# Altium footprint library XILINX-XC7A200T2.PcbLib: 31 footprints (part 3 of 3)
Each footprint in its own frame and in the unit in brackets; x right, y up, seen from the top. Pads: shape width x height; smd on the part's side, far side on the other; paste and mask are expansions set on the pad; w line width, h text height; cw(c..) or ccw(c..) is an arc to the next point about the centre after c.
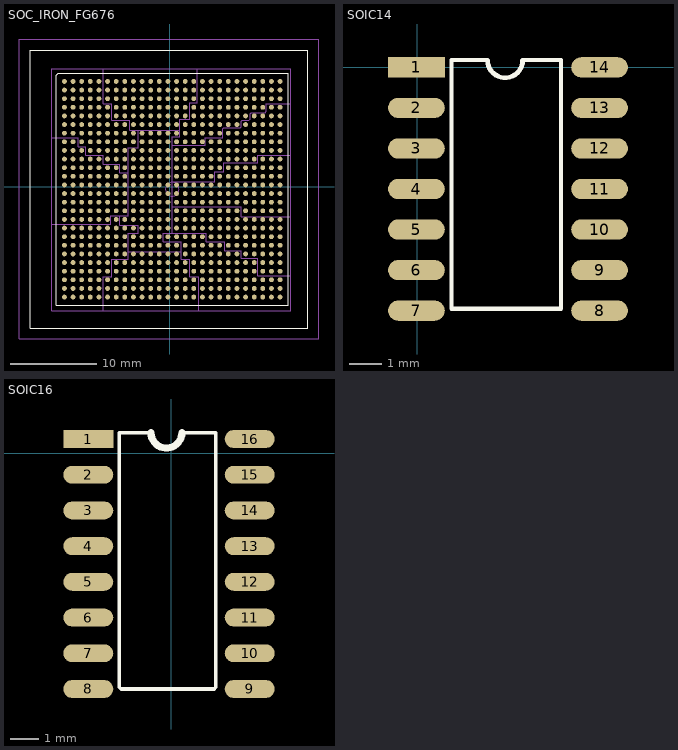
[diagram p2: the footprints below, top view; thin cyan lines are the x and y axes]

## SOC_IRON_FG676 [mil] "SOC_IRON_FG676"
pads (676):
  round 22 smd: A1(-479.63,479.63) A2(-440.26,479.63) A3(-400.89,479.63) A4(-361.52,479.63) A5(-322.15,479.63) A6(-282.78,479.63) A7(-243.41,479.63) A8(-204.04,479.63) A9(-164.67,479.63) A10(-125.3,479.63) A11(-85.93,479.63) A12(-46.56,479.63) A13(-7.19,479.63) A14(32.19,479.63) A15(71.56,479.63) A16(110.93,479.63) A17(150.3,479.63) A18(189.67,479.63) A19(229.04,479.63) A20(268.41,479.63) A21(307.78,479.63) A22(347.15,479.63) A23(386.52,479.63) A24(425.89,479.63) A25(465.26,479.63) A26(504.63,479.63) AA1(-479.63,-307.78) AA2(-440.26,-307.78) AA3(-400.89,-307.78) AA4(-361.52,-307.78) AA5(-322.15,-307.78) AA6(-282.78,-307.78) AA7(-243.41,-307.78) AA8(-204.04,-307.78) AA9(-164.67,-307.78) AA10(-125.3,-307.78) AA11(-85.93,-307.78) AA12(-46.56,-307.78) AA13(-7.19,-307.78) AA14(32.19,-307.78) AA15(71.56,-307.78) AA16(110.93,-307.78) AA17(150.3,-307.78) AA18(189.67,-307.78) AA19(229.04,-307.78) AA20(268.41,-307.78) AA21(307.78,-307.78) AA22(347.15,-307.78) AA23(386.52,-307.78) AA24(425.89,-307.78) AA25(465.26,-307.78) AA26(504.63,-307.78) AB1(-479.63,-347.15) AB2(-440.26,-347.15) AB3(-400.89,-347.15) AB4(-361.52,-347.15) AB5(-322.15,-347.15) AB6(-282.78,-347.15) AB7(-243.41,-347.15) AB8(-204.04,-347.15) AB9(-164.67,-347.15) AB10(-125.3,-347.15) AB11(-85.93,-347.15) AB12(-46.56,-347.15) AB13(-7.19,-347.15) AB14(32.19,-347.15) AB15(71.56,-347.15) AB16(110.93,-347.15) AB17(150.3,-347.15) AB18(189.67,-347.15) AB19(229.04,-347.15) AB20(268.41,-347.15) AB21(307.78,-347.15) AB22(347.15,-347.15) AB23(386.52,-347.15) AB24(425.89,-347.15) AB25(465.26,-347.15) AB26(504.63,-347.15) AC1(-479.63,-386.52) AC2(-440.26,-386.52) AC3(-400.89,-386.52) AC4(-361.52,-386.52) AC5(-322.15,-386.52) AC6(-282.78,-386.52) AC7(-243.41,-386.52) AC8(-204.04,-386.52) AC9(-164.67,-386.52) AC10(-125.3,-386.52) AC11(-85.93,-386.52) AC12(-46.56,-386.52) AC13(-7.19,-386.52) AC14(32.19,-386.52) AC15(71.56,-386.52) AC16(110.93,-386.52) AC17(150.3,-386.52) AC18(189.67,-386.52) AC19(229.04,-386.52) AC20(268.41,-386.52) AC21(307.78,-386.52) AC22(347.15,-386.52) AC23(386.52,-386.52) AC24(425.89,-386.52) AC25(465.26,-386.52) AC26(504.63,-386.52) AD1(-479.63,-425.89) AD2(-440.26,-425.89) AD3(-400.89,-425.89) AD4(-361.52,-425.89) AD5(-322.15,-425.89) AD6(-282.78,-425.89) AD7(-243.41,-425.89) AD8(-204.04,-425.89) AD9(-164.67,-425.89) AD10(-125.3,-425.89) AD11(-85.93,-425.89) AD12(-46.56,-425.89) AD13(-7.19,-425.89) AD14(32.19,-425.89) AD15(71.56,-425.89) AD16(110.93,-425.89) AD17(150.3,-425.89) AD18(189.67,-425.89) AD19(229.04,-425.89) AD20(268.41,-425.89) AD21(307.78,-425.89) AD22(347.15,-425.89) AD23(386.52,-425.89) AD24(425.89,-425.89) AD25(465.26,-425.89) AD26(504.63,-425.89) AE1(-479.63,-465.26) AE2(-440.26,-465.26) AE3(-400.89,-465.26) AE4(-361.52,-465.26) AE5(-322.15,-465.26) AE6(-282.78,-465.26) AE7(-243.41,-465.26) AE8(-204.04,-465.26) AE9(-164.67,-465.26) AE10(-125.3,-465.26) AE11(-85.93,-465.26) AE12(-46.56,-465.26) AE13(-7.19,-465.26) AE14(32.19,-465.26) AE15(71.56,-465.26) AE16(110.93,-465.26) AE17(150.3,-465.26) AE18(189.67,-465.26) AE19(229.04,-465.26) AE20(268.41,-465.26) AE21(307.78,-465.26) AE22(347.15,-465.26) AE23(386.52,-465.26) AE24(425.89,-465.26) AE25(465.26,-465.26) AE26(504.63,-465.26) AF1(-479.63,-504.63) AF2(-440.26,-504.63) AF3(-400.89,-504.63) AF4(-361.52,-504.63) AF5(-322.15,-504.63) AF6(-282.78,-504.63) AF7(-243.41,-504.63) AF8(-204.04,-504.63) AF9(-164.67,-504.63) AF10(-125.3,-504.63) AF11(-85.93,-504.63) AF12(-46.56,-504.63) AF13(-7.19,-504.63) AF14(32.19,-504.63) AF15(71.56,-504.63) AF16(110.93,-504.63) AF17(150.3,-504.63) AF18(189.67,-504.63) AF19(229.04,-504.63) AF20(268.41,-504.63) AF21(307.78,-504.63) AF22(347.15,-504.63) AF23(386.52,-504.63) AF24(425.89,-504.63) AF25(465.26,-504.63) AF26(504.63,-504.63) B1(-479.63,440.26) B2(-440.26,440.26) B3(-400.89,440.26) B4(-361.52,440.26) B5(-322.15,440.26) B6(-282.78,440.26) B7(-243.41,440.26) B8(-204.04,440.26) B9(-164.67,440.26) B10(-125.3,440.26) B11(-85.93,440.26) B12(-46.56,440.26) B13(-7.19,440.26) B14(32.19,440.26) B15(71.56,440.26) B16(110.93,440.26) B17(150.3,440.26) B18(189.67,440.26) B19(229.04,440.26) B20(268.41,440.26) B21(307.78,440.26) B22(347.15,440.26) B23(386.52,440.26) B24(425.89,440.26) B25(465.26,440.26) B26(504.63,440.26) C1(-479.63,400.89) C2(-440.26,400.89) C3(-400.89,400.89) C4(-361.52,400.89) C5(-322.15,400.89) C6(-282.78,400.89) C7(-243.41,400.89) C8(-204.04,400.89) C9(-164.67,400.89) C10(-125.3,400.89) C11(-85.93,400.89) C12(-46.56,400.89) C13(-7.19,400.89) C14(32.19,400.89) C15(71.56,400.89) C16(110.93,400.89) C17(150.3,400.89) C18(189.67,400.89) C19(229.04,400.89) C20(268.41,400.89) C21(307.78,400.89) C22(347.15,400.89) C23(386.52,400.89) C24(425.89,400.89) C25(465.26,400.89) C26(504.63,400.89) D1(-479.63,361.52) D2(-440.26,361.52) D3(-400.89,361.52) D4(-361.52,361.52) D5(-322.15,361.52) D6(-282.78,361.52) D7(-243.41,361.52) D8(-204.04,361.52) D9(-164.67,361.52) D10(-125.3,361.52) D11(-85.93,361.52) D12(-46.56,361.52) D13(-7.19,361.52) D14(32.19,361.52) D15(71.56,361.52) D16(110.93,361.52) D17(150.3,361.52) D18(189.67,361.52) D19(229.04,361.52) D20(268.41,361.52) D21(307.78,361.52) D22(347.15,361.52) D23(386.52,361.52) D24(425.89,361.52) D25(465.26,361.52) D26(504.63,361.52) E1(-479.63,322.15) E2(-440.26,322.15) E3(-400.89,322.15) E4(-361.52,322.15) E5(-322.15,322.15) E6(-282.78,322.15) E7(-243.41,322.15) E8(-204.04,322.15) E9(-164.67,322.15) E10(-125.3,322.15) E11(-85.93,322.15) E12(-46.56,322.15) E13(-7.19,322.15) E14(32.19,322.15) E15(71.56,322.15) E16(110.93,322.15) E17(150.3,322.15) E18(189.67,322.15) E19(229.04,322.15) E20(268.41,322.15) E21(307.78,322.15) E22(347.15,322.15) E23(386.52,322.15) E24(425.89,322.15) E25(465.26,322.15) E26(504.63,322.15) F1(-479.63,282.78) F2(-440.26,282.78) F3(-400.89,282.78) F4(-361.52,282.78) F5(-322.15,282.78) F6(-282.78,282.78) F7(-243.41,282.78) F8(-204.04,282.78) F9(-164.67,282.78) F10(-125.3,282.78) F11(-85.93,282.78) F12(-46.56,282.78) F13(-7.19,282.78) F14(32.19,282.78) F15(71.56,282.78) F16(110.93,282.78) F17(150.3,282.78) F18(189.67,282.78) F19(229.04,282.78) F20(268.41,282.78) F21(307.78,282.78) F22(347.15,282.78) F23(386.52,282.78) F24(425.89,282.78) F25(465.26,282.78) F26(504.63,282.78) G1(-479.63,243.41) G2(-440.26,243.41) G3(-400.89,243.41) G4(-361.52,243.41) G5(-322.15,243.41) G6(-282.78,243.41) G7(-243.41,243.41) G8(-204.04,243.41) G9(-164.67,243.41) G10(-125.3,243.41) G11(-85.93,243.41) G12(-46.56,243.41) G13(-7.19,243.41) G14(32.19,243.41) G15(71.56,243.41) G16(110.93,243.41) G17(150.3,243.41) G18(189.67,243.41) G19(229.04,243.41) G20(268.41,243.41) G21(307.78,243.41) G22(347.15,243.41) G23(386.52,243.41) G24(425.89,243.41) G25(465.26,243.41) G26(504.63,243.41) H1(-479.63,204.04) H2(-440.26,204.04) H3(-400.89,204.04) H4(-361.52,204.04) H5(-322.15,204.04) H6(-282.78,204.04) H7(-243.41,204.04) H8(-204.04,204.04) H9(-164.67,204.04) H10(-125.3,204.04) H11(-85.93,204.04) H12(-46.56,204.04) H13(-7.19,204.04) H14(32.19,204.04) H15(71.56,204.04) H16(110.93,204.04) H17(150.3,204.04) H18(189.67,204.04) H19(229.04,204.04) H20(268.41,204.04) H21(307.78,204.04) H22(347.15,204.04) H23(386.52,204.04) H24(425.89,204.04) H25(465.26,204.04) H26(504.63,204.04) J1(-479.63,164.67) J2(-440.26,164.67) J3(-400.89,164.67) J4(-361.52,164.67) J5(-322.15,164.67) J6(-282.78,164.67) J7(-243.41,164.67) J8(-204.04,164.67) J9(-164.67,164.67) J10(-125.3,164.67) J11(-85.93,164.67) J12(-46.56,164.67) J13(-7.19,164.67) J14(32.19,164.67) J15(71.56,164.67) J16(110.93,164.67) J17(150.3,164.67) J18(189.67,164.67) J19(229.04,164.67) J20(268.41,164.67) J21(307.78,164.67) J22(347.15,164.67) J23(386.52,164.67) J24(425.89,164.67) J25(465.26,164.67) J26(504.63,164.67) K1(-479.63,125.3) K2(-440.26,125.3) K3(-400.89,125.3) K4(-361.52,125.3) K5(-322.15,125.3) K6(-282.78,125.3) K7(-243.41,125.3) K8(-204.04,125.3) K9(-164.67,125.3) K10(-125.3,125.3) K11(-85.93,125.3) K12(-46.56,125.3) K13(-7.19,125.3) K14(32.19,125.3) K15(71.56,125.3) K16(110.93,125.3) K17(150.3,125.3) K18(189.67,125.3) K19(229.04,125.3) K20(268.41,125.3) K21(307.78,125.3) K22(347.15,125.3) K23(386.52,125.3) K24(425.89,125.3) K25(465.26,125.3) K26(504.63,125.3) L1(-479.63,85.93) L2(-440.26,85.93) L3(-400.89,85.93) L4(-361.52,85.93) L5(-322.15,85.93) L6(-282.78,85.93) L7(-243.41,85.93) L8(-204.04,85.93) L9(-164.67,85.93) L10(-125.3,85.93) L11(-85.93,85.93) L12(-46.56,85.93) L13(-7.19,85.93) L14(32.19,85.93) L15(71.56,85.93) L16(110.93,85.93) L17(150.3,85.93) L18(189.67,85.93) L19(229.04,85.93) L20(268.41,85.93) L21(307.78,85.93) L22(347.15,85.93) L23(386.52,85.93) L24(425.89,85.93) L25(465.26,85.93) L26(504.63,85.93) M1(-479.63,46.56) M2(-440.26,46.56) M3(-400.89,46.56) M4(-361.52,46.56) M5(-322.15,46.56) M6(-282.78,46.56) M7(-243.41,46.56) M8(-204.04,46.56) M9(-164.67,46.56) M10(-125.3,46.56) M11(-85.93,46.56) M12(-46.56,46.56) M13(-7.19,46.56) M14(32.19,46.56) M15(71.56,46.56) M16(110.93,46.56) M17(150.3,46.56) M18(189.67,46.56) M19(229.04,46.56) M20(268.41,46.56) M21(307.78,46.56) M22(347.15,46.56) M23(386.52,46.56) M24(425.89,46.56) M25(465.26,46.56) M26(504.63,46.56) N1(-479.63,7.19) N2(-440.26,7.19) N3(-400.89,7.19) N4(-361.52,7.19) N5(-322.15,7.19) N6(-282.78,7.19) N7(-243.41,7.19) N8(-204.04,7.19) N9(-164.67,7.19) N10(-125.3,7.19) N11(-85.93,7.19) N12(-46.56,7.19) N13(-7.19,7.19) N14(32.19,7.19) N15(71.56,7.19) N16(110.93,7.19) N17(150.3,7.19) N18(189.67,7.19) N19(229.04,7.19) N20(268.41,7.19) N21(307.78,7.19) N22(347.15,7.19) N23(386.52,7.19) N24(425.89,7.19) N25(465.26,7.19) N26(504.63,7.19) P1(-479.63,-32.19) P2(-440.26,-32.19) P3(-400.89,-32.19) P4(-361.52,-32.19) P5(-322.15,-32.19) P6(-282.78,-32.19) P7(-243.41,-32.19) P8(-204.04,-32.19) P9(-164.67,-32.19) P10(-125.3,-32.19) P11(-85.93,-32.19) P12(-46.56,-32.19) P13(-7.19,-32.19) P14(32.19,-32.19) P15(71.56,-32.19) P16(110.93,-32.19) P17(150.3,-32.19) P18(189.67,-32.19) P19(229.04,-32.19) P20(268.41,-32.19) P21(307.78,-32.19) P22(347.15,-32.19) P23(386.52,-32.19) P24(425.89,-32.19) P25(465.26,-32.19) P26(504.63,-32.19) R1(-479.63,-71.56) R2(-440.26,-71.56) R3(-400.89,-71.56) R4(-361.52,-71.56) R5(-322.15,-71.56) R6(-282.78,-71.56) R7(-243.41,-71.56) R8(-204.04,-71.56) R9(-164.67,-71.56) R10(-125.3,-71.56) R11(-85.93,-71.56) R12(-46.56,-71.56) R13(-7.19,-71.56) R14(32.19,-71.56) R15(71.56,-71.56) R16(110.93,-71.56) R17(150.3,-71.56) R18(189.67,-71.56) R19(229.04,-71.56) R20(268.41,-71.56) R21(307.78,-71.56) R22(347.15,-71.56) R23(386.52,-71.56) R24(425.89,-71.56) R25(465.26,-71.56) R26(504.63,-71.56) T1(-479.63,-110.93) T2(-440.26,-110.93) T3(-400.89,-110.93) T4(-361.52,-110.93) T5(-322.15,-110.93) T6(-282.78,-110.93) T7(-243.41,-110.93) T8(-204.04,-110.93) T9(-164.67,-110.93) T10(-125.3,-110.93) T11(-85.93,-110.93) T12(-46.56,-110.93) T13(-7.19,-110.93) T14(32.19,-110.93) T15(71.56,-110.93) T16(110.93,-110.93) T17(150.3,-110.93) T18(189.67,-110.93) T19(229.04,-110.93) T20(268.41,-110.93) T21(307.78,-110.93) T22(347.15,-110.93) T23(386.52,-110.93) T24(425.89,-110.93) T25(465.26,-110.93) T26(504.63,-110.93) U1(-479.63,-150.3) U2(-440.26,-150.3) U3(-400.89,-150.3) U4(-361.52,-150.3) U5(-322.15,-150.3) U6(-282.78,-150.3) U7(-243.41,-150.3) U8(-204.04,-150.3) U9(-164.67,-150.3) U10(-125.3,-150.3) U11(-85.93,-150.3) U12(-46.56,-150.3) U13(-7.19,-150.3) U14(32.19,-150.3) U15(71.56,-150.3) U16(110.93,-150.3) U17(150.3,-150.3) U18(189.67,-150.3) U19(229.04,-150.3) U20(268.41,-150.3) U21(307.78,-150.3) U22(347.15,-150.3) U23(386.52,-150.3) U24(425.89,-150.3) U25(465.26,-150.3) U26(504.63,-150.3) V1(-479.63,-189.67) V2(-440.26,-189.67) V3(-400.89,-189.67) V4(-361.52,-189.67) V5(-322.15,-189.67) V6(-282.78,-189.67) V7(-243.41,-189.67) V8(-204.04,-189.67) V9(-164.67,-189.67) V10(-125.3,-189.67) V11(-85.93,-189.67) V12(-46.56,-189.67) V13(-7.19,-189.67) V14(32.19,-189.67) V15(71.56,-189.67) V16(110.93,-189.67) V17(150.3,-189.67) V18(189.67,-189.67) V19(229.04,-189.67) V20(268.41,-189.67) V21(307.78,-189.67) V22(347.15,-189.67) V23(386.52,-189.67) V24(425.89,-189.67) V25(465.26,-189.67) V26(504.63,-189.67) W1(-479.63,-229.04) W2(-440.26,-229.04) W3(-400.89,-229.04) W4(-361.52,-229.04) W5(-322.15,-229.04) W6(-282.78,-229.04) W7(-243.41,-229.04) W8(-204.04,-229.04) W9(-164.67,-229.04) W10(-125.3,-229.04) W11(-85.93,-229.04) W12(-46.56,-229.04) W13(-7.19,-229.04) W14(32.19,-229.04) W15(71.56,-229.04) W16(110.93,-229.04) W17(150.3,-229.04) W18(189.67,-229.04) W19(229.04,-229.04) W20(268.41,-229.04) W21(307.78,-229.04) W22(347.15,-229.04) W23(386.52,-229.04) W24(425.89,-229.04) W25(465.26,-229.04) W26(504.63,-229.04) Y1(-479.63,-268.41) Y2(-440.26,-268.41) Y3(-400.89,-268.41) Y4(-361.52,-268.41) Y5(-322.15,-268.41) Y6(-282.78,-268.41) Y7(-243.41,-268.41) Y8(-204.04,-268.41) Y9(-164.67,-268.41) Y10(-125.3,-268.41) Y11(-85.93,-268.41) Y12(-46.56,-268.41) Y13(-7.19,-268.41) Y14(32.19,-268.41) Y15(71.56,-268.41) Y16(110.93,-268.41) Y17(150.3,-268.41) Y18(189.67,-268.41) Y19(229.04,-268.41) Y20(268.41,-268.41) Y21(307.78,-268.41) Y22(347.15,-268.41) Y23(386.52,-268.41) Y24(425.89,-268.41) Y25(465.26,-268.41) Y26(504.63,-268.41)
Top Overlay:
  lines w1: -636.64,-646.82 -636.64,621.88 632.06,621.88 632.06,-646.82 -636.64,-646.82
  lines w5: -517.03,-542.03 542.03,-542.03 542.03,517.03 -506.79,517.03 -517.03,506.79 -517.03,-542.03
Bottom Overlay:
  lines w5: -538.68,-307.78 -187.5,-307.78 ; -538.68,-110.93 -185.5,-110.93 ; -538.68,125.3 -185.5,125.3 ; -538.68,322.15 -147.5,322.15 ; -322.15,-563.68 -322.15,-489.13 ; -322.15,-405.13 -322.15,-94.13 ; -322.15,-41.13 -322.15,410.87 ; -322.15,503.87 -322.15,538.68 ; -125.3,-563.68 -125.3,-530.13 ; -125.3,-443.13 -125.3,-328.13 ; -125.3,-287.13 -125.3,-212.13 ; -125.3,12.87 -125.3,21.87 ; -125.3,183.87 -125.3,256.87 ; -125.3,347.87 -125.3,538.68 ; -104.5,-307.78 -65.5,-307.78 ; -104.5,322.15 -68.5,322.15 ; -26.5,322.15 563.68,322.15 ; 41.5,-307.78 563.68,-307.78 ; 41.5,-110.93 563.68,-110.93 ; 110.93,-563.68 110.93,-492.13 ; 110.93,459.87 110.93,538.68 ; 307.78,-563.68 307.78,538.68
  text "26" at 287.26,551.87 h35
  text "20" at 517.26,581.87 h35
Mechanical 2:
  circle w1: c12.5,-12.5 r31.25
  lines w1: 681.1,-692.91 681.1,673.23 ; 681.28,-696.04 -685.85,-696.04 -685.85,671.09 681.28,671.09
Mechanical 16:
  lines w5: -227.5,-132.5 -227.5,-177.5 -142.5,-177.5 -142.5,-212.5 -187.5,-212.5 -187.5,-332.5 -262.5,-332.5 -262.5,-412.5 -302.5,-412.5 -302.5,-567.5 ; -187.5,-297.5 52.5,-297.5 ; 47.5,257.5 -142.5,257.5 ; -537.5,-172.5 -267.5,-172.5 -267.5,-132.5 -187.5,-132.5 -187.5,62.5 ; -537.5,-172.5 -537.5,222.5 ; -537.5,-172.5 -537.5,-567.5 -302.5,-567.5 ; -537.5,222.5 -537.5,537.5 -302.5,537.5 ; -537.5,222.5 -417.5,222.5 -417.5,182.5 -382.5,182.5 -382.5,142.5 -302.5,142.5 -302.5,102.5 -227.5,102.5 -227.5,62.5 -187.5,62.5 ; -302.5,-567.5 132.5,-567.5 ; -302.5,537.5 127.5,537.5 ; -302.5,537.5 -302.5,377.5 -262.5,377.5 -262.5,302.5 -182.5,302.5 -182.5,257.5 -142.5,257.5 ; -187.5,62.5 -187.5,177.5 -142.5,177.5 -142.5,257.5 ; 12.5,-212.5 12.5,-92.5 ; 12.5,-212.5 167.5,-212.5 167.5,-252.5 252.5,-252.5 252.5,-292.5 327.5,-292.5 327.5,-327.5 402.5,-327.5 402.5,-407.5 552.5,-407.5 ; 12.5,-212.5 -27.5,-212.5 -27.5,-252.5 52.5,-252.5 52.5,-332.5 92.5,-332.5 92.5,-412.5 132.5,-412.5 132.5,-567.5 ; 12.5,-92.5 12.5,22.5 ; 12.5,-92.5 327.5,-92.5 327.5,-137.5 552.5,-137.5 ; 12.5,22.5 12.5,187.5 ; 12.5,22.5 207.5,22.5 207.5,67.5 247.5,67.5 247.5,107.5 402.5,107.5 402.5,142.5 552.5,142.5 ; 12.5,187.5 162.5,187.5 162.5,222.5 242.5,222.5 242.5,262.5 247.5,267.5 322.5,267.5 327.5,272.5 327.5,297.5 332.5,302.5 362.5,302.5 367.5,307.5 367.5,332.5 372.5,337.5 437.5,337.5 442.5,342.5 442.5,377.5 552.5,377.5 ; 12.5,187.5 12.5,227.5 47.5,227.5 47.5,307.5 92.5,307.5 92.5,382.5 127.5,382.5 127.5,507.5 127.5,537.5 ; 127.5,537.5 552.5,537.5 552.5,377.5 ; 132.5,-567.5 552.5,-567.5 552.5,-407.5 ; 552.5,-407.5 552.5,-137.5 ; 552.5,-137.5 552.5,142.5 ; 552.5,142.5 552.5,377.5
  text "F24" at 449.89,282.78 h40
  text "K19" at 253.04,125.3 h40
  text "R25" at 489.26,-71.56 h40
  text "M16" at 134.93,46.56 h40
  text "Bank 15" at 527.5,302.5 h40
  text "Bank 14" at 527.5,57.5 h40
  text "Bank 13" at 527.5,-202.5 h40
  text "Bank 16" at 462.5,527.5 h40
  text "Bank 12" at 402.5,-537.5 h40
  text "Bank MGT-116" at -7.5,527.5 h40
  text "Bank MGT-113" at -12.5,-537.5 h40
  text "Bank 35" at -367.5,527.5 h40
  text "Bank 34" at -527.5,122.5 h40
  text "Bank 33" at -527.5,-347.5 h40
  text "B16" at 134.93,440.26 h40
  text "AD16" at 142.93,-425.89 h40
  text "B15" at 95.56,440.26 h40
  text "A14" at 56.19,479.63 h40
  text "E12" at -22.56,322.15 h40
  text "C13" at 16.81,400.89 h40
  text "E15" at 95.56,322.15 h40
  text "J12" at -22.56,164.67 h40
  text "G13" at 16.81,243.41 h40
  text "L12" at -22.56,85.93 h40
  text "M13" at 16.81,46.56 h40
  text "U12" at -22.56,-150.3 h40
  text "T13" at 16.81,-110.93 h40
  text "W12" at -22.56,-229.04 h40
  text "AB12" at -14.56,-347.15 h40
  text "AF12" at -14.56,-504.63 h40
  text "AD13" at 24.81,-425.89 h40
  text "AC15" at 103.56,-386.52 h40
  text "C9" at -148.67,400.89 h40
  text "E10" at -101.3,322.15 h40
  text "F9" at -148.67,282.78 h40
  text "G11" at -61.93,243.41 h40
  text "K9" at -148.67,125.3 h40
  text "K11" at -61.93,125.3 h40
  text "L10" at -101.3,85.93 h40
  text "M9" at -148.67,46.56 h40
  text "P9" at -148.67,-32.19 h40
  text "AA9" at -140.67,-307.78 h40
  text "AF10" at -93.3,-504.63 h40
  text "AD9" at -140.67,-425.89 h40
  text "AD11" at -53.93,-425.89 h40
  text "D7" at -227.41,361.52 h40
  text "P7" at -227.41,-32.19 h40
  text "AD6" at -258.78,-425.89 h40
  text "M3" at -384.89,46.56 h40
  text "A8" at -188.04,479.63 h40
  text "AB23" at 418.52,-347.15 h40
  text "W22" at 371.15,-229.04 h40
  text "V25" at 489.26,-189.67 h40
  text "T21" at 331.78,-110.93 h40
  text "R24" at 449.89,-71.56 h40
  text "A26" at 528.63,479.63 h40
  text "B23" at 410.52,440.26 h40
  text "A16" at 134.93,479.63 h40
  text "A10" at -101.3,479.63 h40
  text "A12" at -22.56,479.63 h40
  text "B6" at -266.78,440.26 h40
  text "A6" at -266.78,479.63 h40
  text "B3" at -384.89,440.26 h40
  text "C20" at 292.41,400.89 h40
  text "F21" at 331.78,282.78 h40
  text "E24" at 449.89,322.15 h40
  text "C16" at 134.93,400.89 h40
  text "D17" at 174.3,361.52 h40
  text "F14" at 56.19,282.78 h40
  text "E14" at 56.19,322.15 h40
  text "D15" at 95.56,361.52 h40
  text "E8" at -188.04,322.15 h40
  text "E9" at -148.67,322.15 h40
  text "C11" at -61.93,400.89 h40
  text "C6" at -266.78,400.89 h40
  text "E7" at -227.41,322.15 h40
  text "E4" at -345.52,322.15 h40
  text "F1" at -463.63,282.78 h40
  text "H25" at 489.26,204.04 h40
  text "J22" at 371.15,164.67 h40
  text "G18" at 213.67,243.41 h40
  text "K13" at 16.81,125.3 h40
  text "G10" at -101.3,243.41 h40
  text "G12" at -22.56,243.41 h40
  text "H5" at -306.15,204.04 h40
  text "J2" at -424.26,164.67 h40
  text "L26" at 528.63,85.93 h40
  text "N20" at 292.41,7.19 h40
  text "M23" at 410.52,46.56 h40
  text "P17" at 174.3,-32.19 h40
  text "L16" at 134.93,85.93 h40
  text "P13" at 16.81,-32.19 h40
  text "N10" at -101.3,7.19 h40
  text "L6" at -266.78,85.93 h40
  text "U18" at 213.67,-150.3 h40
  text "V13" at 16.81,-189.67 h40
  text "V15" at 95.56,-189.67 h40
  text "U10" at -101.3,-150.3 h40
  text "T11" at -61.93,-110.93 h40
  text "U8" at -188.04,-150.3 h40
  text "T9" at -148.67,-110.93 h40
  text "R10" at -101.3,-71.56 h40
  text "V5" at -306.15,-189.67 h40
  text "R4" at -345.52,-71.56 h40
  text "T1" at -463.63,-110.93 h40
  text "AA16" at 142.93,-307.78 h40
  text "Y19" at 253.04,-268.41 h40
  text "Y13" at 16.81,-268.41 h40
  text "AB14" at 64.19,-347.15 h40
  text "AA14" at 64.19,-307.78 h40
  text "AB8" at -180.04,-347.15 h40
  text "AB9" at -140.67,-347.15 h40
  text "Y10" at -101.3,-268.41 h40
  text "AB10" at -93.3,-347.15 h40
  text "Y11" at -61.93,-268.41 h40
  text "Y12" at -22.56,-268.41 h40
  text "AA6" at -258.78,-307.78 h40
  text "AB3" at -376.89,-347.15 h40
  text "W2" at -424.26,-229.04 h40
  text "AC20" at 300.41,-386.52 h40
  text "AF21" at 339.78,-504.63 h40
  text "AE24" at 457.89,-465.26 h40
  text "AF16" at 142.93,-504.63 h40
  text "AF14" at 64.19,-504.63 h40
  text "AE15" at 103.56,-465.26 h40
  text "AF8" at -180.04,-504.63 h40
  text "AE4" at -337.52,-465.26 h40
  text "AF6" at -258.78,-504.63 h40
  text "AE6" at -258.78,-465.26 h40
  text "AC7" at -219.41,-386.52 h40
  text "AF1" at -455.63,-504.63 h40
  text "AA26" at 536.63,-307.78 h40
  text "U4" at -345.52,-150.3 h40
  text "M4" at -345.52,46.56 h40
  text "J3" at -384.89,164.67 h40
  text "J1" at -463.63,164.67 h40
  text "L4" at -345.52,85.93 h40
  text "K5" at -306.15,125.3 h40
  text "M7" at -227.41,46.56 h40
  text "K1" at -463.63,125.3 h40
  text "M6" at -266.78,46.56 h40
  text "H1" at -463.63,204.04 h40
  text "K3" at -384.89,125.3 h40
  text "N7" at -227.41,7.19 h40
  text "L5" at -306.15,85.93 h40
  text "L7" at -227.41,85.93 h40
  text "N6" at -266.78,7.19 h40
  text "L3" at -384.89,85.93 h40
  text "K2" at -424.26,125.3 h40
  text "N1" at -463.63,7.19 h40
  text "M1" at -463.63,46.56 h40
  text "H2" at -424.26,204.04 h40
  text "T4" at -345.52,-110.93 h40
  text "P4" at -345.52,-32.19 h40
  text "N4" at -345.52,7.19 h40
  text "L2" at -424.26,85.93 h40
  text "M2" at -424.26,46.56 h40
  text "N2" at -424.26,7.19 h40
  text "N3" at -384.89,7.19 h40
  text "AB6" at -258.78,-347.15 h40
  text "AA8" at -180.04,-307.78 h40
  text "Y8" at -188.04,-268.41 h40
  text "AB5" at -298.15,-347.15 h40
  text "AA5" at -298.15,-307.78 h40
  text "Y5" at -306.15,-268.41 h40
  text "Y6" at -266.78,-268.41 h40
  text "Y7" at -227.41,-268.41 h40
  text "AF4" at -337.52,-504.63 h40
  text "AF5" at -298.15,-504.63 h40
  text "AF3" at -376.89,-504.63 h40
  text "AE3" at -376.89,-465.26 h40
  text "AD3" at -376.89,-425.89 h40
  text "AC3" at -376.89,-386.52 h40
  text "AB4" at -337.52,-347.15 h40
  text "AA4" at -337.52,-307.78 h40
  text "AC2" at -416.26,-386.52 h40
  text "AB2" at -416.26,-347.15 h40
  text "AF2" at -416.26,-504.63 h40
  text "AE2" at -416.26,-465.26 h40
  text "Y1" at -463.63,-268.41 h40
  text "Y2" at -424.26,-268.41 h40
  text "AC1" at -455.63,-386.52 h40
  text "AB1" at -455.63,-347.15 h40
  text "Y3" at -384.89,-268.41 h40
  text "W3" at -384.89,-229.04 h40
  text "W6" at -266.78,-229.04 h40
  text "V6" at -266.78,-189.67 h40
  text "W4" at -345.52,-229.04 h40
  text "W5" at -306.15,-229.04 h40
  text "W1" at -463.63,-229.04 h40
  text "V1" at -463.63,-189.67 h40
  text "G2" at -424.26,243.41 h40
  text "D1" at -463.63,361.52 h40
  text "E1" at -463.63,322.15 h40
  text "E2" at -424.26,322.15 h40
  text "F2" at -424.26,282.78 h40
  text "A2" at -424.26,479.63 h40
  text "A3" at -384.89,479.63 h40
  text "C2" at -424.26,400.89 h40
  text "C3" at -384.89,400.89 h40
  text "D3" at -384.89,361.52 h40
  text "A4" at -345.52,479.63 h40
  text "B4" at -345.52,440.26 h40
  text "C4" at -345.52,400.89 h40
  text "D4" at -345.52,361.52 h40
  text "D5" at -306.15,361.52 h40
  text "E5" at -306.15,322.15 h40
  text "F4" at -345.52,282.78 h40
  text "G4" at -345.52,243.41 h40
  text "K6" at -266.78,125.3 h40
  text "K7" at -227.41,125.3 h40
  text "K8" at -188.04,125.3 h40
  text "L8" at -188.04,85.93 h40
  text "J5" at -306.15,164.67 h40
  text "J6" at -266.78,164.67 h40
  text "G6" at -266.78,243.41 h40
  text "H6" at -266.78,204.04 h40
  text "F7" at -227.41,282.78 h40
  text "F8" at -188.04,282.78 h40
  text "G8" at -188.04,243.41 h40
  text "H8" at -188.04,204.04 h40
  text "D6" at -266.78,361.52 h40
  text "E6" at -266.78,322.15 h40
  text "AC6" at -258.78,-386.52 h40
  text "AC4" at -337.52,-386.52 h40
  text "AA3" at -376.89,-307.78 h40
  text "U7" at -227.41,-150.3 h40
  text "G1" at -463.63,243.41 h40
  text "F3" at -384.89,282.78 h40
  text "G5" at -306.15,243.41 h40
  text "H9" at -148.67,204.04 h40
  text "W8" at -188.04,-229.04 h40
  text "V8" at -188.04,-189.67 h40
  text "AD5" at -298.15,-425.89 h40
  text "AE1" at -455.63,-465.26 h40
  text "AD1" at -455.63,-425.89 h40
  text "V2" at -424.26,-189.67 h40
  text "V3" at -384.89,-189.67 h40
  text "B1" at -463.63,440.26 h40
  text "C1" at -463.63,400.89 h40
  text "A5" at -306.15,479.63 h40
  text "B5" at -306.15,440.26 h40
  text "H4" at -345.52,204.04 h40
  text "J4" at -345.52,164.67 h40
  text "G7" at -227.41,243.41 h40
  text "H7" at -227.41,204.04 h40
  text "R2" at -424.26,-71.56 h40
  text "U2" at -424.26,-150.3 h40
  text "P1" at -463.63,-32.19 h40
  text "N8" at -188.04,7.19 h40
  text "T3" at -384.89,-110.93 h40
  text "T2" at -424.26,-110.93 h40
  text "U1" at -463.63,-150.3 h40
  text "R1" at -463.63,-71.56 h40
  text "R14" at 56.19,-71.56 h40
  text "R15" at 95.56,-71.56 h40
  text "P14" at 56.19,-32.19 h40
  text "N14" at 56.19,7.19 h40
  text "V11" at -61.93,-189.67 h40
  text "P8" at -188.04,-32.19 h40
  text "R7" at -227.41,-71.56 h40
  text "R6" at -266.78,-71.56 h40
  text "U6" at -266.78,-150.3 h40
  text "U5" at -306.15,-150.3 h40
  text "P6" at -266.78,-32.19 h40
  text "T5" at -306.15,-110.93 h40
  text "R5" at -306.15,-71.56 h40
  text "N18" at 213.67,7.19 h40
  text "K25" at 489.26,125.3 h40
  text "L25" at 489.26,85.93 h40
  text "M24" at 449.89,46.56 h40
  text "M25" at 489.26,46.56 h40
  text "L22" at 371.15,85.93 h40
  text "L20" at 292.41,85.93 h40
  text "L23" at 410.52,85.93 h40
  text "L24" at 449.89,85.93 h40
  text "E11" at -61.93,322.15 h40
  text "F11" at -61.93,282.78 h40
  text "C12" at -22.56,400.89 h40
  text "D12" at -22.56,361.52 h40
  text "A13" at 16.81,479.63 h40
  text "B13" at 16.81,440.26 h40
  text "C14" at 56.19,400.89 h40
  text "D14" at 56.19,361.52 h40
  text "A11" at -61.93,479.63 h40
  text "B11" at -61.93,440.26 h40
  text "C10" at -101.3,400.89 h40
  text "D10" at -101.3,361.52 h40
  text "A9" at -148.67,479.63 h40
  text "B9" at -148.67,440.26 h40
  text "C8" at -188.04,400.89 h40
  text "D8" at -188.04,361.52 h40
  text "A7" at -227.41,479.63 h40
  text "B7" at -227.41,440.26 h40
  text "K26" at 528.63,125.3 h40
  text "W18" at 213.67,-229.04 h40
  text "T14" at 56.19,-110.93 h40
  text "U17" at 174.3,-150.3 h40
  text "V17" at 174.3,-189.67 h40
  text "V16" at 134.93,-189.67 h40
  text "V14" at 56.19,-189.67 h40
  text "U16" at 134.93,-150.3 h40
  text "U15" at 95.56,-150.3 h40
  text "T18" at 213.67,-110.93 h40
  text "T17" at 174.3,-110.93 h40
  text "R23" at 410.52,-71.56 h40
  text "AD12" at -14.56,-425.89 h40
  text "AC12" at -14.56,-386.52 h40
  text "R18" at 213.67,-71.56 h40
  text "AD10" at -93.3,-425.89 h40
  text "AC10" at -93.3,-386.52 h40
  text "P3" at -384.89,-32.19 h40
  text "R3" at -384.89,-71.56 h40
  text "H23" at 410.52,204.04 h40
  text "J23" at 410.52,164.67 h40
  text "T7" at -227.41,-110.93 h40
  text "T8" at -188.04,-110.93 h40
  text "L13" at 16.81,85.93 h40
  text "L11" at -61.93,85.93 h40
  text "K12" at -22.56,125.3 h40
  text "K10" at -101.3,125.3 h40
  text "J13" at 16.81,164.67 h40
  text "J11" at -61.93,164.67 h40
  text "V10" at -101.3,-189.67 h40
  text "V12" at -22.56,-189.67 h40
  text "M10" at -101.3,46.56 h40
  text "P10" at -101.3,-32.19 h40
  text "U11" at -61.93,-150.3 h40
  text "T12" at -22.56,-110.93 h40
  text "T10" at -101.3,-110.93 h40
  text "V7" at -227.41,-189.67 h40
  text "AA7" at -219.41,-307.78 h40
  text "M5" at -306.15,46.56 h40
  text "P5" at -306.15,-32.19 h40
  text "G9" at -148.67,243.41 h40
  text "B2" at -424.26,440.26 h40
  text "J9" at -148.67,164.67 h40
  text "L9" at -148.67,85.93 h40
  text "N9" at -148.67,7.19 h40
  text "R9" at -148.67,-71.56 h40
  text "U9" at -148.67,-150.3 h40
  text "C7" at -227.41,400.89 h40
  text "C15" at 95.56,400.89 h40
  text "B8" at -188.04,440.26 h40
  text "B14" at 56.19,440.26 h40
  text "B12" at -22.56,440.26 h40
  text "B10" at -101.3,440.26 h40
  text "AE12" at -14.56,-465.26 h40
  text "AD15" at 103.56,-425.89 h40
  text "AE14" at 64.19,-465.26 h40
  text "AE10" at -93.3,-465.26 h40
  text "AE8" at -180.04,-465.26 h40
  text "AD7" at -219.41,-425.89 h40
  text "M20" at 292.41,46.56 h40
  text "N22" at 371.15,7.19 h40
  text "P20" at 292.41,-32.19 h40
  text "N21" at 331.78,7.19 h40
  text "N24" at 449.89,7.19 h40
  text "N23" at 410.52,7.19 h40
  text "P19" at 253.04,-32.19 h40
  text "N19" at 253.04,7.19 h40
  text "P23" at 410.52,-32.19 h40
  text "P24" at 449.89,-32.19 h40
  text "R20" at 292.41,-71.56 h40
  text "P21" at 331.78,-32.19 h40
  text "M22" at 371.15,46.56 h40
  text "M21" at 331.78,46.56 h40
  text "M11" at -61.93,46.56 h40
  text "N11" at -61.93,7.19 h40
  text "R11" at -61.93,-71.56 h40
  text "R12" at -22.56,-71.56 h40
  text "M12" at -22.56,46.56 h40
  text "P12" at -22.56,-32.19 h40
  text "W10" at -101.3,-229.04 h40
  text "AB7" at -219.41,-347.15 h40
  text "Y9" at -148.67,-268.41 h40
  text "W9" at -148.67,-229.04 h40
  text "AE16" at 142.93,-465.26 h40
  text "G14" at 56.19,243.41 h40
  text "AC13" at 24.81,-386.52 h40
  text "F12" at -22.56,282.78 h40
  text "AA12" at -14.56,-307.78 h40
  text "F10" at -101.3,282.78 h40
  text "AA10" at -93.3,-307.78 h40
  text "AC9" at -140.67,-386.52 h40
  text "AC11" at -53.93,-386.52 h40
  text "D11" at -61.93,361.52 h40
  text "D13" at 16.81,361.52 h40
  text "D9" at -148.67,361.52 h40
  text "R17" at 174.3,-71.56 h40
  text "D24" at 449.89,361.52 h40
  text "D23" at 410.52,361.52 h40
  text "H12" at -22.56,204.04 h40
  text "H11" at -61.93,204.04 h40
  text "H13" at 16.81,204.04 h40
  text "J26" at 528.63,164.67 h40
  text "J25" at 489.26,164.67 h40
  text "P16" at 134.93,-32.19 h40
  text "J10" at -101.3,164.67 h40
  text "H10" at -101.3,204.04 h40
  text "W21" at 331.78,-229.04 h40
  text "V21" at 331.78,-189.67 h40
  text "AA24" at 457.89,-307.78 h40
  text "Y25" at 489.26,-268.41 h40
  text "Y26" at 528.63,-268.41 h40
  text "V26" at 528.63,-189.67 h40
  text "W26" at 528.63,-229.04 h40
  text "W25" at 489.26,-229.04 h40
  text "W24" at 449.89,-229.04 h40
  text "U26" at 528.63,-150.3 h40
  text "U25" at 489.26,-150.3 h40
  text "V24" at 449.89,-189.67 h40
  text "AB26" at 536.63,-347.15 h40
  text "AA22" at 379.15,-307.78 h40
  text "Y21" at 331.78,-268.41 h40
  text "AC26" at 536.63,-386.52 h40
  text "T20" at 292.41,-110.93 h40
  text "P18" at 213.67,-32.19 h40
  text "M26" at 528.63,46.56 h40
  text "T24" at 449.89,-110.93 h40
  text "R16" at 134.93,-71.56 h40
  text "R8" at -188.04,-71.56 h40
  text "R26" at 528.63,-71.56 h40
  text "R13" at 16.81,-71.56 h40
  text "W13" at 16.81,-229.04 h40
  text "N13" at 16.81,7.19 h40
  text "U13" at 16.81,-150.3 h40
  text "H17" at 174.3,204.04 h40
  text "E22" at 371.15,322.15 h40
  text "K18" at 213.67,125.3 h40
  text "L19" at 253.04,85.93 h40
  text "C19" at 253.04,400.89 h40
  text "D19" at 253.04,361.52 h40
  text "H22" at 371.15,204.04 h40
  text "H21" at 331.78,204.04 h40
  text "AB19" at 261.04,-347.15 h40
  text "AA19" at 261.04,-307.78 h40
  text "AC21" at 339.78,-386.52 h40
  text "AB21" at 339.78,-347.15 h40
  text "AE26" at 536.63,-465.26 h40
  text "AE25" at 497.26,-465.26 h40
  text "AC23" at 418.52,-386.52 h40
  text "AC22" at 379.15,-386.52 h40
  text "AF25" at 497.26,-504.63 h40
  text "AD26" at 536.63,-425.89 h40
  text "AD25" at 497.26,-425.89 h40
  text "AF23" at 418.52,-504.63 h40
  text "AE23" at 418.52,-465.26 h40
  text "AD24" at 457.89,-425.89 h40
  text "AD23" at 418.52,-425.89 h40
  text "AE21" at 339.78,-465.26 h40
  text "AD21" at 339.78,-425.89 h40
  text "AF20" at 300.41,-504.63 h40
  text "AF19" at 261.04,-504.63 h40
  text "AE22" at 379.15,-465.26 h40
  text "AE20" at 300.41,-465.26 h40
  text "AD20" at 300.41,-425.89 h40
  text "AD19" at 261.04,-425.89 h40
  text "AC19" at 261.04,-386.52 h40
  text "AD18" at 221.67,-425.89 h40
  text "AC18" at 221.67,-386.52 h40
  text "AF18" at 221.67,-504.63 h40
  text "AE18" at 221.67,-465.26 h40
  text "AA18" at 221.67,-307.78 h40
  text "Y18" at 213.67,-268.41 h40
  text "AF17" at 182.3,-504.63 h40
  text "AE17" at 182.3,-465.26 h40
  text "AB20" at 300.41,-347.15 h40
  text "AA20" at 300.41,-307.78 h40
  text "AB17" at 182.3,-347.15 h40
  text "AA17" at 182.3,-307.78 h40
  text "AD17" at 182.3,-425.89 h40
  text "AC17" at 182.3,-386.52 h40
  text "Y17" at 174.3,-268.41 h40
  text "Y16" at 134.93,-268.41 h40
  text "AC16" at 142.93,-386.52 h40
  text "AB16" at 142.93,-347.15 h40
  text "AA15" at 103.56,-307.78 h40
  text "Y15" at 95.56,-268.41 h40
  text "W15" at 95.56,-229.04 h40
  text "W14" at 56.19,-229.04 h40
  text "C18" at 213.67,400.89 h40
  text "D18" at 213.67,361.52 h40
  text "E18" at 213.67,322.15 h40
  text "E17" at 174.3,322.15 h40
  text "H15" at 95.56,204.04 h40
  text "H14" at 56.19,204.04 h40
  text "F17" at 174.3,282.78 h40
  text "G17" at 174.3,243.41 h40
  text "F19" at 253.04,282.78 h40
  text "F18" at 213.67,282.78 h40
  text "F15" at 95.56,282.78 h40
  text "G15" at 95.56,243.41 h40
  text "F20" at 292.41,282.78 h40
  text "G19" at 253.04,243.41 h40
  text "G16" at 134.93,243.41 h40
  text "H16" at 134.93,204.04 h40
  text "B17" at 174.3,440.26 h40
  text "C17" at 174.3,400.89 h40
  text "D16" at 134.93,361.52 h40
  text "E16" at 134.93,322.15 h40
  text "A18" at 213.67,479.63 h40
  text "A17" at 174.3,479.63 h40
  text "A19" at 253.04,479.63 h40
  text "B19" at 253.04,440.26 h40
  text "D20" at 292.41,361.52 h40
  text "E20" at 292.41,322.15 h40
  text "A20" at 292.41,479.63 h40
  text "B20" at 292.41,440.26 h40
  text "B21" at 331.78,440.26 h40
  text "C21" at 331.78,400.89 h40
  text "A22" at 371.15,479.63 h40
  text "B22" at 371.15,440.26 h40
  text "D21" at 331.78,361.52 h40
  text "E21" at 331.78,322.15 h40
  text "J21" at 331.78,164.67 h40
  text "K21" at 331.78,125.3 h40
  text "G21" at 331.78,243.41 h40
  text "G20" at 292.41,243.41 h40
  text "L14" at 56.19,85.93 h40
  text "M14" at 56.19,46.56 h40
  text "M17" at 174.3,46.56 h40
  text "H19" at 253.04,204.04 h40
  text "J19" at 253.04,164.67 h40
  text "L18" at 213.67,85.93 h40
  text "L17" at 174.3,85.93 h40
  text "J20" at 292.41,164.67 h40
  text "K20" at 292.41,125.3 h40
  text "H18" at 213.67,204.04 h40
  text "J18" at 213.67,164.67 h40
  text "F22" at 371.15,282.78 h40
  text "G22" at 371.15,243.41 h40
  text "H24" at 449.89,204.04 h40
  text "J24" at 449.89,164.67 h40
  text "E23" at 418.87,218.88 h40
  text "F23" at 410.52,282.78 h40
  text "K23" at 410.52,125.3 h40
  text "K22" at 371.15,125.3 h40
  text "G24" at 449.89,243.41 h40
  text "D25" at 489.26,361.52 h40
  text "E25" at 489.26,322.15 h40
  text "D26" at 528.63,361.52 h40
  text "E26" at 528.63,322.15 h40
  text "G26" at 528.63,243.41 h40
  text "H26" at 528.63,204.04 h40
  text "F25" at 489.26,282.78 h40
  text "G25" at 489.26,243.41 h40
  text "N17" at 174.3,7.19 h40
  text "N16" at 134.93,7.19 h40
  text "P2" at -424.26,-32.19 h40
  text "U3" at -384.89,-150.3 h40
  text "AA1" at -455.63,-307.78 h40
  text "T6" at -266.78,-110.93 h40
  text "Y4" at -345.52,-268.41 h40
  text "W7" at -227.41,-229.04 h40
  text "A1" at -463.63,479.63 h40
  text "C5" at -306.15,400.89 h40
  text "F6" at -266.78,282.78 h40
  text "D2" at -424.26,361.52 h40
  text "K4" at -345.52,125.3 h40
  text "J7" at -227.41,164.67 h40
  text "G3" at -384.89,243.41 h40
  text "N5" at -306.15,7.19 h40
  text "L1" at -463.63,85.93 h40
  text "AC5" at -298.15,-386.52 h40
  text "AD2" at -416.26,-425.89 h40
  text "M8" at -188.04,46.56 h40
  text "U20" at 292.41,-150.3 h40
  text "W23" at 410.52,-229.04 h40
  text "W20" at 292.41,-229.04 h40
  text "U24" at 449.89,-150.3 h40
  text "Y20" at 292.41,-268.41 h40
  text "V23" at 410.52,-189.67 h40
  text "AA23" at 418.52,-307.78 h40
  text "AA25" at 497.26,-307.78 h40
  text "AB25" at 497.26,-347.15 h40
  text "AC24" at 457.89,-386.52 h40
  text "AB24" at 457.89,-347.15 h40
  text "Y22" at 371.15,-268.41 h40
  text "Y23" at 410.52,-268.41 h40
  text "V22" at 371.15,-189.67 h40
  text "V18" at 213.67,-189.67 h40
  text "U21" at 331.78,-150.3 h40
  text "U14" at 56.19,-150.3 h40
  text "U22" at 371.15,-150.3 h40
  text "T15" at 95.56,-110.93 h40
  text "M19" at 253.04,46.56 h40
  text "B24" at 449.89,440.26 h40
  text "W19" at 253.04,-229.04 h40
  text "V19" at 253.04,-189.67 h40
  text "U19" at 253.04,-150.3 h40
  text "T19" at 253.04,-110.93 h40
  text "AE19" at 261.04,-465.26 h40
  text "AD22" at 379.15,-425.89 h40
  text "AF26" at 536.63,-504.63 h40
  text "AB18" at 221.67,-347.15 h40
  text "W17" at 174.3,-229.04 h40
  text "AA21" at 339.78,-307.78 h40
  text "K14" at 56.19,125.3 h40
  text "M18" at 213.67,46.56 h40
  text "J17" at 174.3,164.67 h40
  text "H20" at 292.41,204.04 h40
  text "G23" at 410.52,243.41 h40
  text "F16" at 134.93,282.78 h40
  text "E19" at 253.04,322.15 h40
  text "A21" at 331.78,479.63 h40
  text "B18" at 213.67,440.26 h40
  text "F26" at 528.63,282.78 h40
  text "C25" at 489.26,400.89 h40
  text "D22" at 371.15,361.52 h40
  text "Y24" at 449.89,-268.41 h40
  text "V20" at 292.41,-189.67 h40
  text "U23" at 410.52,-150.3 h40
  text "T26" at 528.63,-110.93 h40
  text "T16" at 134.93,-110.93 h40
  text "AC25" at 497.26,-386.52 h40
  text "AF9" at -140.67,-504.63 h40
  text "AE9" at -140.67,-465.26 h40
  text "AF13" at 24.81,-504.63 h40
  text "AE13" at 24.81,-465.26 h40
  text "AD8" at -180.04,-425.89 h40
  text "AC8" at -180.04,-386.52 h40
  text "AD14" at 64.19,-425.89 h40
  text "AC14" at 64.19,-386.52 h40
  text "A24" at 449.89,479.63 h40
  text "C26" at 528.63,400.89 h40
  text "N26" at 528.63,7.19 h40
  text "R21" at 331.78,-71.56 h40
  text "P25" at 489.26,-32.19 h40
  text "P26" at 528.63,-32.19 h40
  text "T22" at 371.15,-110.93 h40
  text "R22" at 371.15,-71.56 h40
  text "T23" at 410.52,-110.93 h40
  text "B26" at 528.63,440.26 h40
  text "C24" at 449.89,400.89 h40
  text "AF11" at -53.93,-504.63 h40
  text "AE11" at -53.93,-465.26 h40
  text "AF7" at -219.41,-504.63 h40
  text "AE7" at -219.41,-465.26 h40
  text "K17" at 174.3,125.3 h40
  text "K16" at 134.93,125.3 h40
  text "L15" at 95.56,85.93 h40
  text "M15" at 95.56,46.56 h40
  text "J16" at 134.93,164.67 h40
  text "K15" at 95.56,125.3 h40
  text "J15" at 95.56,164.67 h40
  text "J14" at 56.19,164.67 h40
  text "P11" at -61.93,-32.19 h40
  text "N12" at -22.56,7.19 h40
  text "P15" at 95.56,-32.19 h40
  text "K24" at 449.89,125.3 h40
  text "N25" at 489.26,7.19 h40
  text "P22" at 371.15,-32.19 h40
  text "L21" at 331.78,85.93 h40
  text "N15" at 95.56,7.19 h40
  text "W11" at -61.93,-229.04 h40
  text "R19" at 253.04,-71.56 h40
  text "Y14" at 56.19,-268.41 h40
  text "AB15" at 103.56,-347.15 h40
  text "B25" at 489.26,440.26 h40
  text "A25" at 489.26,479.63 h40
  text "A23" at 410.52,479.63 h40
  text "AF15" at 103.56,-504.63 h40
  text "A15" at 95.56,479.63 h40
  text "AB13" at 24.81,-347.15 h40
  text "AA13" at 24.81,-307.78 h40
  text "AB11" at -53.93,-347.15 h40
  text "AA11" at -53.93,-307.78 h40
  text "J8" at -188.04,164.67 h40
  text "F5" at -306.15,282.78 h40
  text "E3" at -384.89,322.15 h40
  text "H3" at -384.89,204.04 h40
  text "V4" at -345.52,-189.67 h40
  text "AA2" at -416.26,-307.78 h40
  text "AD4" at -337.52,-425.89 h40
  text "V9" at -148.67,-189.67 h40
  text "C22" at 371.15,400.89 h40
  text "C23" at 410.52,400.89 h40
  text "W16" at 134.93,-229.04 h40
  text "AB22" at 379.15,-347.15 h40
  text "F13" at 16.81,282.78 h40
  text "E13" at 16.81,322.15 h40
  text "AE5" at -298.15,-465.26 h40

## SOIC14 [mil]
pads (14):
  rect 70x25 smd: 1(-0.98,0)
  oval 70x25 smd: 2(-0.98,-50) 3(-0.98,-100) 4(-0.98,-150) 5(-0.98,-200) 6(-0.98,-250) 7(-0.98,-300) 8(225,-300) 9(225,-250) 10(225,-200) 11(225,-150) 12(225,-100) 13(225,-50) 14(225,0)
Top Overlay:
  lines w5: 86.77,8.86 42.48,8.86 42.48,-297.52 42.32,-297.68 177.32,-297.68 177.32,8.86 130.08,8.86
  lines w6: 86.77,8.86 ccw(c108.42,8.86) 130.08,8.86

## SOIC16 [mil]
pads (16):
  rect 70x25 smd: 1(-115.98,20)
  oval 70x25 smd: 2(-115.98,-30) 3(-115.98,-80) 4(-115.98,-130) 5(-115.98,-180) 6(-115.98,-230) 7(-115.98,-280) 8(-115.98,-330) 9(110,-330) 10(110,-280) 11(110,-230) 12(110,-180) 13(110,-130) 14(110,-80) 15(110,-30) 16(110,20)
Top Overlay:
  lines w5: -28.23,28.86 -72.52,28.86 -72.52,-277.52 -72.68,-277.68 -72.68,-327.32 -70,-330 60,-330 62.32,-327.68 62.32,-277.68 62.32,28.86 15.08,28.86
  lines w10: -28.23,28.86 ccw(c-6.58,28.86) 15.08,28.86